# Altium schematic symbol library SC1509.SchLib: 1 symbol
Pins are listed as number, name and electrical type; pins without a type are passive.

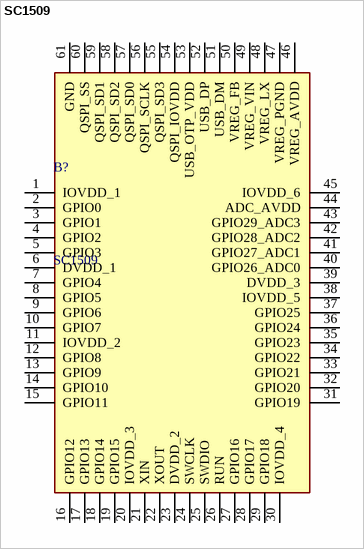
[diagram p0: symbol SC1509]

## SC1509
designator B?
ARM Microcontrollers - MCU 150MHz clock Dual Arm Cortex-M33 cores 520KB RAM 8KB on-chip OTP storage 7" Reel QFN-60; Manufacturer_Name: RASPBERRY-PI; Geometry.Height: 0.9mm; Mouser Part Number: 358-SC1509; Mouser Price/Stock: https://www.mouser.co.uk/ProductDetail/Raspberry-Pi/SC1509?qs=jcD%2FCkGBYeMjax32yHei3A%3D%3D; Manufacturer_Part_Number: SC1509; Datasheet Link: https://datasheets.raspberrypi.com/rp2350/rp2350-datasheet.pdf
footprint QFN40P700X700X90-61N-D
pins: 1 IOVDD_1, 2 GPIO0, 3 GPIO1, 4 GPIO2, 5 GPIO3, 6 DVDD_1, 7 GPIO4, 8 GPIO5, 9 GPIO6, 10 GPIO7, 11 IOVDD_2, 12 GPIO8, 13 GPIO9, 14 GPIO10, 15 GPIO11, 16 GPIO12, 17 GPIO13, 18 GPIO14, 19 GPIO15, 20 IOVDD_3, 21 XIN, 22 XOUT, 23 DVDD_2, 24 SWCLK, 25 SWDIO, 26 RUN, 27 GPIO16, 28 GPIO17, 29 GPIO18, 30 IOVDD_4, 31 GPIO19, 32 GPIO20, 33 GPIO21, 34 GPIO22, 35 GPIO23, 36 GPIO24, 37 GPIO25, 38 IOVDD_5, 39 DVDD_3, 40 GPIO26_ADC0, 41 GPIO27_ADC1, 42 GPIO28_ADC2, 43 GPIO29_ADC3, 44 ADC_AVDD, 45 IOVDD_6, 46 VREG_AVDD, 47 VREG_PGND, 48 VREG_LX, 49 VREG_VIN, 50 VREG_FB, 51 USB_DM, 52 USB_DP, 53 USB_OTP_VDD, 54 QSPI_IOVDD, 55 QSPI_SD3, 56 QSPI_SCLK, 57 QSPI_SD0, 58 QSPI_SD2, 59 QSPI_SD1, 60 QSPI_SS, 61 GND